# EAGLE library part MSP430F44* (library msp430)
Mixed Signal Microcontroller 12bit ADC, 160 LCD segments
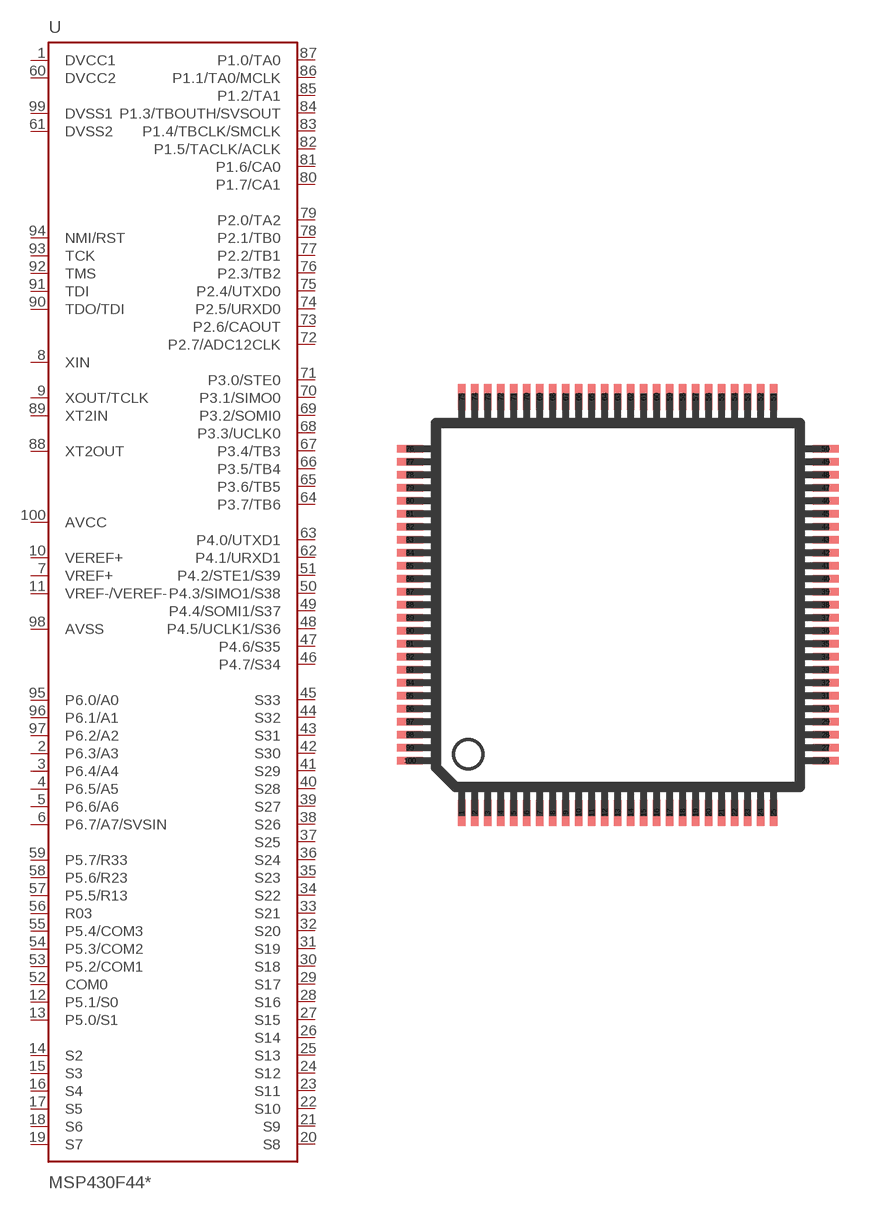
[diagram p10: symbol with the pads of S-PQFP-G100(PZ); footprint S-PQFP-G100(PZ)]

Designator prefix U

## MSP430F447IPZ, MSP430F448IPZ, MSP430F449IPZ  [S-PQFP-G100(PZ)]
1  DVCC1  pwr
2  P6.3/A3
3  P6.4/A4
4  P6.5/A5
5  P6.6/A6
6  P6.7/A7/SVSIN
7  VREF+  pas
8  XIN  pas
9  XOUT/TCLK  pas
10  VEREF+  pas
11  VREF-/VEREF-  pas
12  P5.1/S0
13  P5.0/S1
14  S2  out
15  S3  out
16  S4  out
17  S5  out
18  S6  out
19  S7  out
20  S8  out
21  S9  out
22  S10  out
23  S11  out
24  S12  out
25  S13  out
26  S14  out
27  S15  out
28  S16  out
29  S17  out
30  S18  out
31  S19  out
32  S20  out
33  S21  out
34  S22  out
35  S23  out
36  S24  out
37  S25  out
38  S26  out
39  S27  out
40  S28  out
41  S29  out
42  S30  out
43  S31  out
44  S32  out
45  S33  out
46  P4.7/S34
47  P4.6/S35
48  P4.5/UCLK1/S36
49  P4.4/SOMI1/S37
50  P4.3/SIMO1/S38
51  P4.2/STE1/S39
52  COM0  out
53  P5.2/COM1
54  P5.3/COM2
55  P5.4/COM3
56  R03  in
57  P5.5/R13
58  P5.6/R23
59  P5.7/R33
60  DVCC2  pwr
61  DVSS2  pwr
62  P4.1/URXD1
63  P4.0/UTXD1
64  P3.7/TB6
65  P3.6/TB5
66  P3.5/TB4
67  P3.4/TB3
68  P3.3/UCLK0
69  P3.2/SOMI0
70  P3.1/SIMO0
71  P3.0/STE0
72  P2.7/ADC12CLK
73  P2.6/CAOUT
74  P2.5/URXD0
75  P2.4/UTXD0
76  P2.3/TB2
77  P2.2/TB1
78  P2.1/TB0
79  P2.0/TA2
80  P1.7/CA1
81  P1.6/CA0
82  P1.5/TACLK/ACLK
83  P1.4/TBCLK/SMCLK
84  P1.3/TBOUTH/SVSOUT
85  P1.2/TA1
86  P1.1/TA0/MCLK
87  P1.0/TA0
88  XT2OUT  pas
89  XT2IN  pas
90  TDO/TDI
91  TDI  in
92  TMS  in
93  TCK  in
94  NMI/RST  in
95  P6.0/A0
96  P6.1/A1
97  P6.2/A2
98  AVSS  pwr
99  DVSS1  pwr
100  AVCC  pwr

## Footprint S-PQFP-G100(PZ) (pad centres in mm)
smd 0.29 x 1: 1 -6,-8; 2 -5.5,-8; 3 -5,-8; 4 -4.5,-8; 5 -4,-8; 6 -3.5,-8; 7 -3,-8; 8 -2.5,-8; 9 -2,-8; 10 -1.5,-8; 11 -1,-8; 12 -0.5,-8; 13 0,-8; 14 0.5,-8; 15 1,-8; 16 1.5,-8; 17 2,-8; 18 2.5,-8; 19 3,-8; 20 3.5,-8; 21 4,-8; 22 4.5,-8; 23 5,-8; 24 5.5,-8; 25 6,-8; 51 6,8; 52 5.5,8; 53 5,8; 54 4.5,8; 55 4,8; 56 3.5,8; 57 3,8; 58 2.5,8; 59 2,8; 60 1.5,8; 61 1,8; 62 0.5,8; 63 0,8; 64 -0.5,8; 65 -1,8; 66 -1.5,8; 67 -2,8; 68 -2.5,8; 69 -3,8; 70 -3.5,8; 71 -4,8; 72 -4.5,8; 73 -5,8; 74 -5.5,8; 75 -6,8
smd 1 x 0.29: 26 8,-6; 27 8,-5.5; 28 8,-5; 29 8,-4.5; 30 8,-4; 31 8,-3.5; 32 8,-3; 33 8,-2.5; 34 8,-2; 35 8,-1.5; 36 8,-1; 37 8,-0.5; 38 8,0; 39 8,0.5; 40 8,1; 41 8,1.5; 42 8,2; 43 8,2.5; 44 8,3; 45 8,3.5; 46 8,4; 47 8,4.5; 48 8,5; 49 8,5.5; 50 8,6; 76 -8,6; 77 -8,5.5; 78 -8,5; 79 -8,4.5; 80 -8,4; 81 -8,3.5; 82 -8,3; 83 -8,2.5; 84 -8,2; 85 -8,1.5; 86 -8,1; 87 -8,0.5; 88 -8,0; 89 -8,-0.5; 90 -8,-1; 91 -8,-1.5; 92 -8,-2; 93 -8,-2.5; 94 -8,-3; 95 -8,-3.5; 96 -8,-4; 97 -8,-4.5; 98 -8,-5; 99 -8,-5.5; 100 -8,-6